# Altium footprint library WINBOND WSON-8 6X5MM.PCBLIB: 1 footprints
Each footprint in its own frame and in the unit in brackets; x right, y up, seen from the top. Pads: shape width x height; smd on the part's side, far side on the other; paste and mask are expansions set on the pad; w line width, h text height; cw(c..) or ccw(c..) is an arc to the next point about the centre after c.
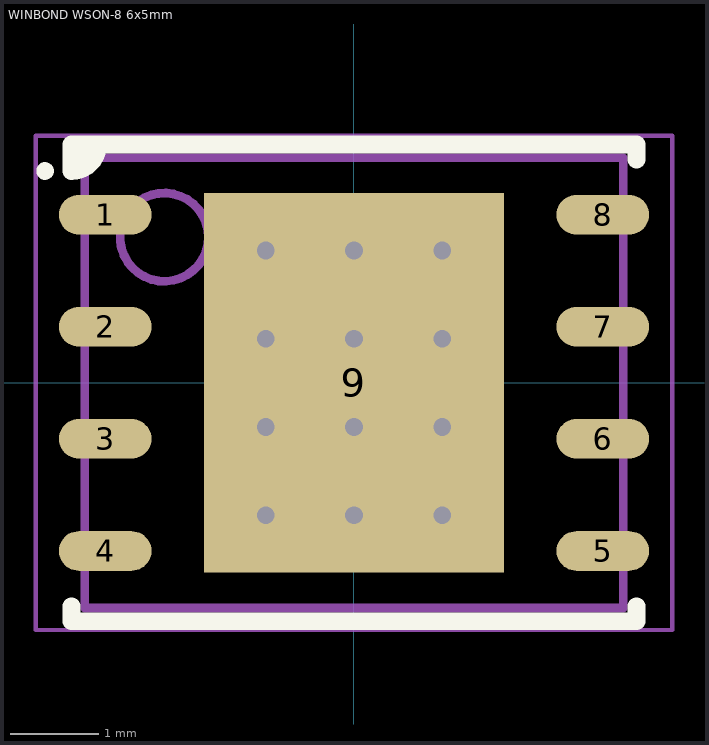
[diagram p0: the footprint, top view; thin cyan lines are the x and y axes]

## WINBOND WSON-8 6x5mm [mm] "SON, 8-Leads, Body 5.00x6.00mm, Pitch 1.27mm, Thermal Pad 4.30x3.40mm, IPC Medium Density"
height 0.8
pads (9):
  oval 1.05x0.45 smd: 1(-2.82,1.905) 2(-2.82,0.635) 3(-2.82,-0.635) 4(-2.82,-1.905) 5(2.82,-1.905) 6(2.82,-0.635) 7(2.82,0.635) 8(2.82,1.905)
  rect 3.4x4.3 smd paste-1.7 mask+0: 9(0,0)
via 1,-1.5 diameter 0.5 hole 0.2
via 0,-1.5 diameter 0.5 hole 0.2
via -1,-1.5 diameter 0.5 hole 0.2
via 1,-0.5 diameter 0.5 hole 0.2
via 0,-0.5 diameter 0.5 hole 0.2
via -1,-0.5 diameter 0.5 hole 0.2
via 1,0.5 diameter 0.5 hole 0.2
via 0,0.5 diameter 0.5 hole 0.2
via -1,0.5 diameter 0.5 hole 0.2
via 1,1.5 diameter 0.5 hole 0.2
via 0,1.5 diameter 0.5 hole 0.2
via -1,1.5 diameter 0.5 hole 0.2
Top Overlay:
  circle w0.1: c-3.5,2.4 r0.05
  region: -3.2,2.4 -3.14,2.4 -3.03,2.446 -2.946,2.53 -2.9,2.64 -2.9,2.7 -3.2,2.7
  lines w0.2: -3.2,-2.53 -3.2,-2.7 3.2,-2.7 3.2,-2.53 ; -2.9,2.7 cw(c-3.2,2.7) -3.2,2.4 ; 3.2,2.53 3.2,2.7 -3.2,2.7 -3.2,2.4 ; -3.2,2.4 -3.2,2.4
Top Paste:
  rectangle: 0.665,-2.045 1.595,-0.815
  rectangle: 0.665,-0.615 1.595,0.615
  rectangle: 0.665,0.815 1.595,2.045
  rectangle: -0.465,-2.045 0.465,-0.815
  rectangle: -0.465,-0.615 0.465,0.615
  rectangle: -0.465,0.815 0.465,2.045
  rectangle: -1.595,-2.045 -0.665,-0.815
  rectangle: -1.595,-0.615 -0.665,0.615
  rectangle: -1.595,0.815 -0.665,2.045
Mechanical 13:
  circle w0.1: c-2.15,1.65 r0.5
  lines w0.1: -3.05,-2.55 3.05,-2.55 3.05,2.55 -3.05,2.55 -3.05,-2.55
Mechanical 15:
  lines w0.05: -3.605,-2.8 3.605,-2.8 3.605,2.8 -3.605,2.8 -3.605,-2.8
  lines w0.1: -0.5,0 0.5,0 ; 0,-0.5 0,0.5
3D body: height 0.8, standoff 0, extent -3.05,-2.55 3.05,2.55